# Altium schematic symbol library CAP 6.8uF 35V.Schlib: 1 symbol
Pins are listed as number, name and electrical type; pins without a type are passive.

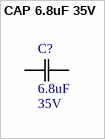
[diagram p0: symbol CAP 6.8uF 35V]

## CAP 6.8uF 35V
designator C?, comment Rating: 35V  (hidden comment: 6.8uF)
CAP CER 6.8UF 35V X7R 0805; Tolerance: 10%; Package: 0805; Temperature Coefficient: X7R; Operating Temperature: -55°C ~ 125°C; Value: 6.8uF
footprint 0805
pins: 1 C1, 2 C2